# Altium footprint library 无限下载.PcbLib: 17 footprints (part 2 of 2)
Each footprint in its own frame and in the unit in brackets; x right, y up, seen from the top. Pads: shape width x height; smd on the part's side, far side on the other; paste and mask are expansions set on the pad; w line width, h text height; cw(c..) or ccw(c..) is an arc to the next point about the centre after c.
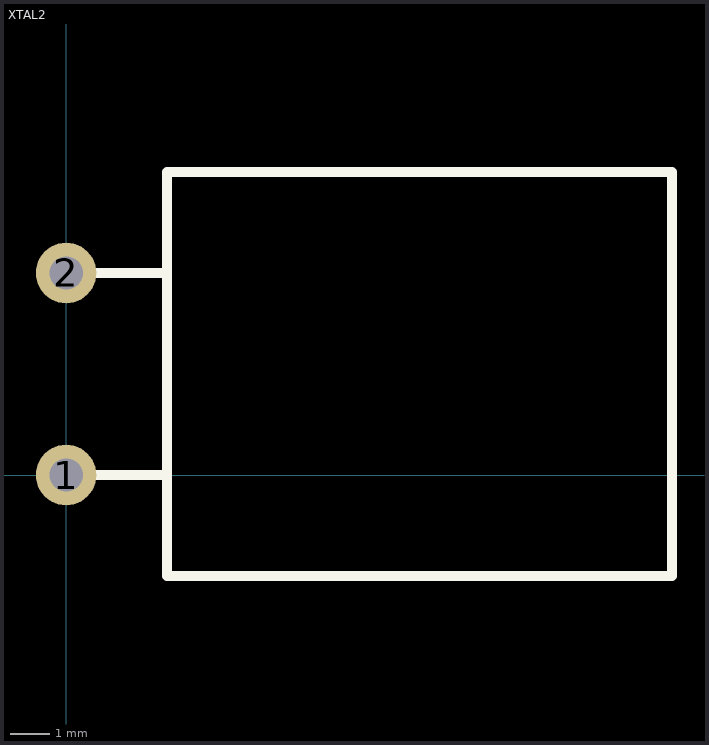
[diagram p1: the footprint, top view; thin cyan lines are the x and y axes]

## XTAL2 [mil]
pads (2):
  round 60 hole 33: 1(0,0) 2(0,200)
Top Overlay:
  lines w10: 0,0 100,0 ; 0,200 100,200 ; 100,-100 600,-100 600,300 100,300 100,-100